# Altium footprint library RF_Digital_RFD22301_Altium_PCB_Library.PcbLib: 1 footprints
Each footprint in its own frame and in the unit in brackets; x right, y up, seen from the top. Pads: shape width x height; smd on the part's side, far side on the other; paste and mask are expansions set on the pad; w line width, h text height; cw(c..) or ccw(c..) is an arc to the next point about the centre after c.
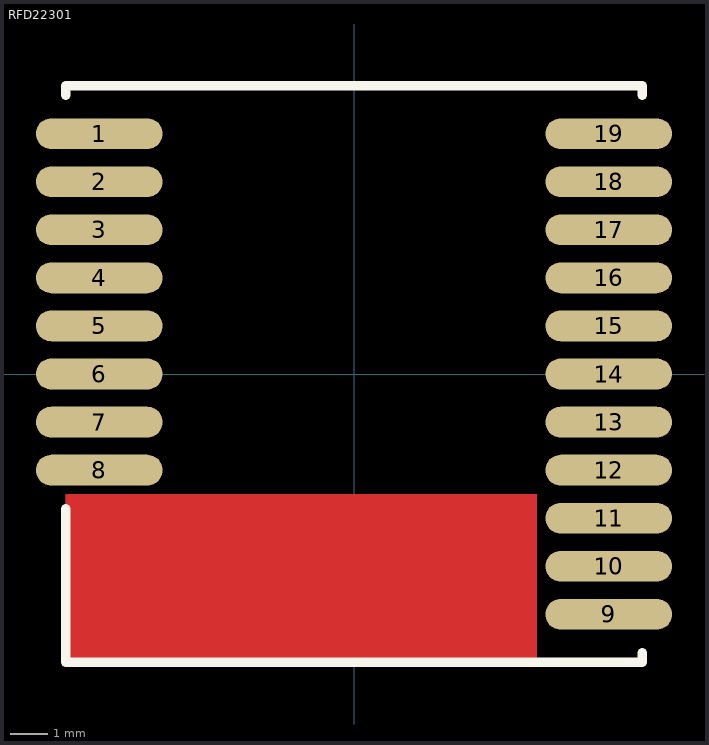
[diagram p0: the footprint, top view; thin cyan lines are the x and y axes]

## RFD22301 [mil] "2.4 GHz RF Transceiver Module"
height 117
pads (19):
  oval 132x32 smd: 1(-265,250) 2(-265,200) 3(-265,150) 4(-265,100) 5(-265,50) 6(-265,0) 7(-265,-50) 8(-265,-100) 9(265,-250) 10(265,-200) 11(265,-150) 12(265,-100) 13(265,-50) 14(265,0) 15(265,50) 16(265,100) 17(265,150) 18(265,200) 19(265,250)
Top Layer:
  pour cut-out: -300,-125 190,-125 190,-300 -300,-300
Bottom Layer:
  pour cut-out: -300,-125 190,-125 190,-300 -300,-300
Top Overlay:
  lines w10: -300,-140 -300,-300 300,-300 300,-290 ; -300,290 -300,300 300,300 300,290
Mechanical 10:
  text ".Designator" at -165,-30 h60
3D body: height 123.25, standoff 0.44, extent -299.99,-298 300.01,302